# Altium schematic symbol library Keebs.SchLib: 35 symbols
Pins are listed as number, name and electrical type; pins without a type are passive.

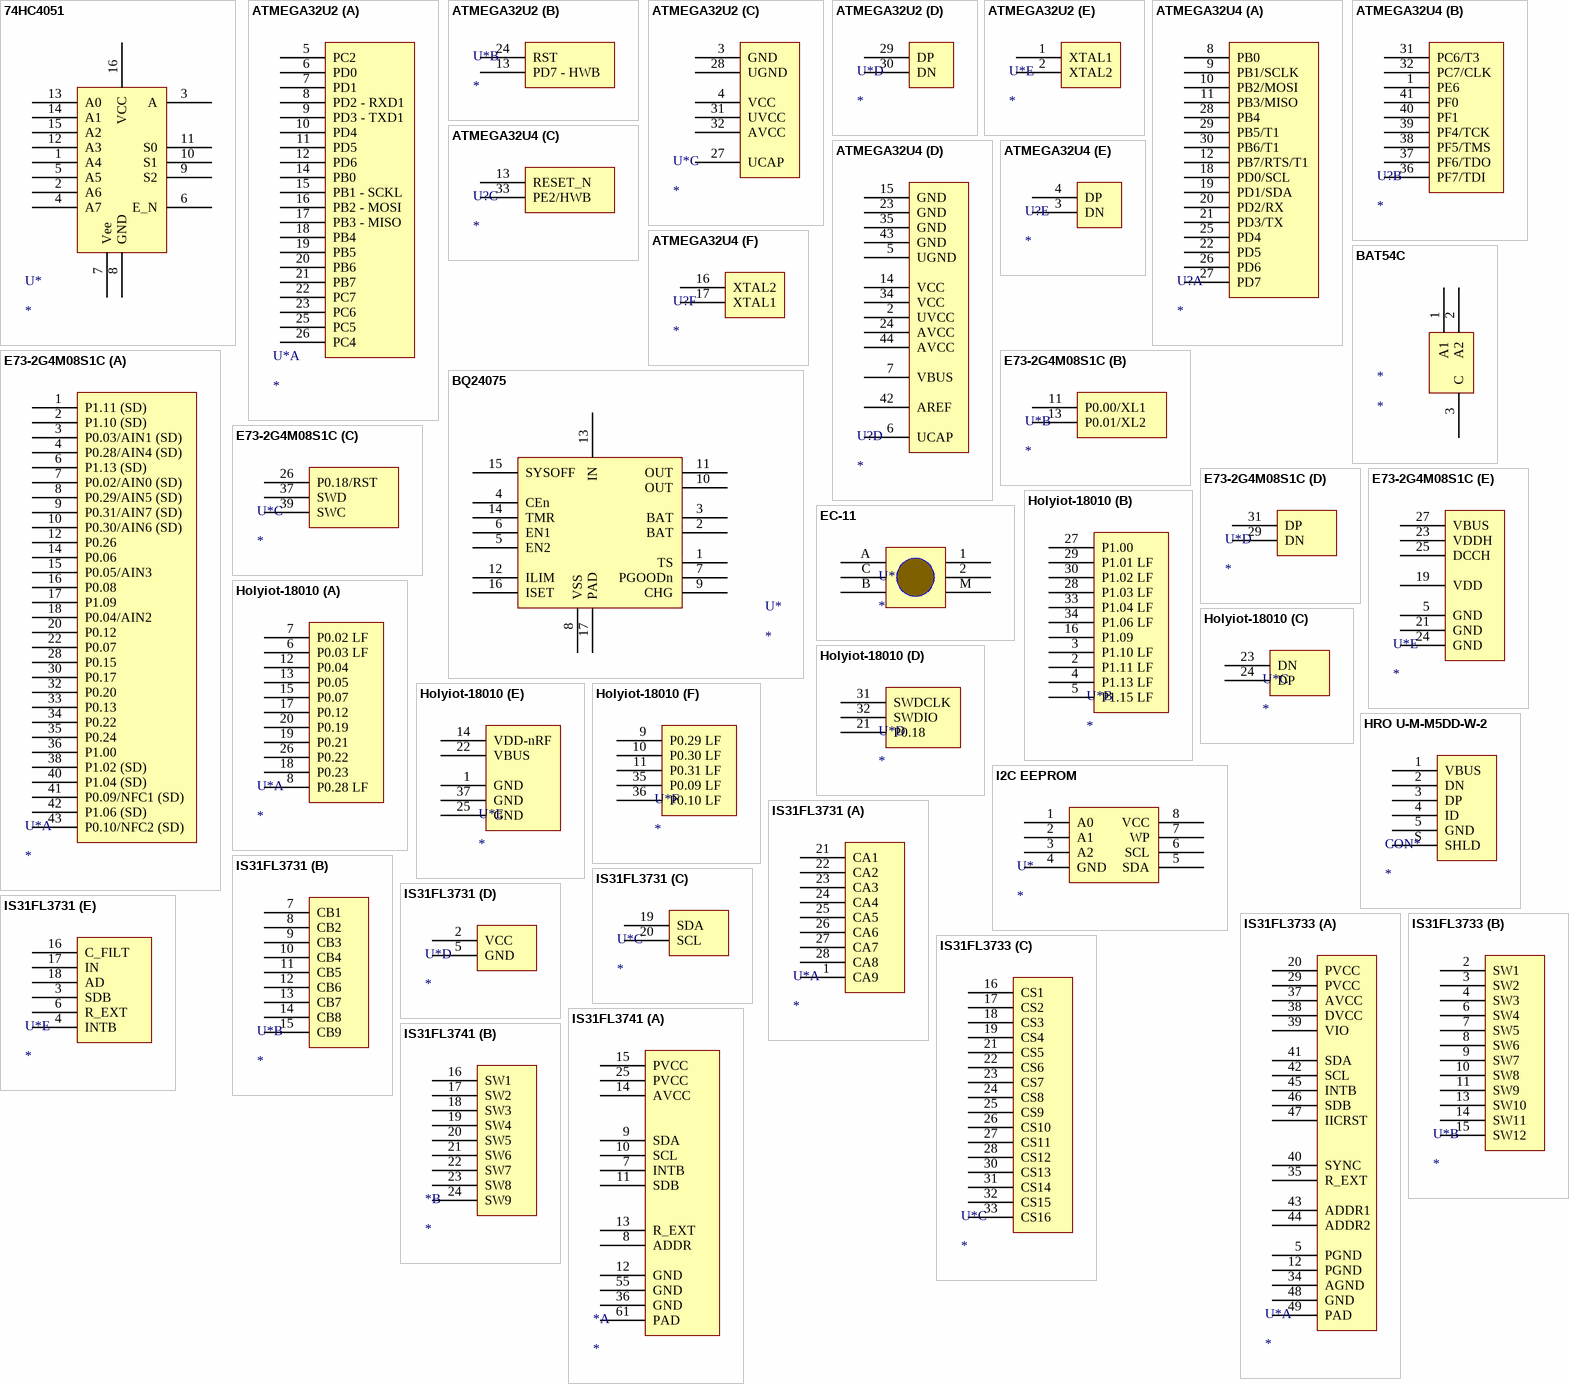
[diagram p0: symbols 74HC4051 to IS31FL3741]

## 74HC4051
designator U*
footprint Texas_Instruments_D_SOIC16
pins: 1 A4, 2 A6, 3 A, 4 A7, 5 A5, 6 E_N, 7 Vee, 8 GND, 9 S2, 10 S1, 11 S0, 12 A3, 13 A0, 14 A1, 15 A2, 16 VCC

## ATMEGA32U2
designator U*
MFG: Microchip Technology; MFGPN: ATMEGA32U2-AUR
footprint ATMEGA32U2-LQFP
part A pins: 5 PC2, 6 PD0, 7 PD1, 8 PD2 - RXD1, 9 PD3 - TXD1, 10 PD4, 11 PD5, 12 PD6, 14 PB0, 15 PB1 - SCKL, 16 PB2 - MOSI, 17 PB3 - MISO, 18 PB4, 19 PB5, 20 PB6, 21 PB7, 22 PC7, 23 PC6, 25 PC5, 26 PC4
part B pins: 13 PD7 - HWB, 24 RST
part C pins: 3 GND, 4 VCC, 27 UCAP, 28 UGND, 31 UVCC, 32 AVCC
part D pins: 29 DP, 30 DN
part E pins: 1 XTAL1, 2 XTAL2

## ATMEGA32U4
designator U?
footprint ATMEGA32U4-COMBO (QFP, 44-Leads, Body 9,95x9,95mm, Pitch 0,80mm, IPC Medium Density)
part A pins: 8 PB0, 9 PB1/SCLK, 10 PB2/MOSI, 11 PB3/MISO, 12 PB7/RTS/T1, 18 PD0/SCL, 19 PD1/SDA, 20 PD2/RX, 21 PD3/TX, 22 PD5, 25 PD4, 26 PD6, 27 PD7, 28 PB4, 29 PB5/T1, 30 PB6/T1
part B pins: 1 PE6, 31 PC6/T3, 32 PC7/CLK, 36 PF7/TDI, 37 PF6/TDO, 38 PF5/TMS, 39 PF4/TCK, 40 PF1, 41 PF0
part C pins: 13 RESET_N, 33 PE2/HWB
part D pins: 2 UVCC, 5 UGND, 6 UCAP, 7 VBUS, 14 VCC, 15 GND, 23 GND, 24 AVCC, 34 VCC, 35 GND, 42 AREF, 43 GND, 44 AVCC
part E pins: 3 DN, 4 DP
part F pins: 16 XTAL2, 17 XTAL1

## BAT54C
designator *
footprint SOT-23-3 (3.3v regulator, used in Windsond S2 proto 1)
pins: 1 A1, 2 A2, 3 C

## BQ24075
designator U*
footprint QFN16 (Generated for BQ24075RGTR)
pins: 1 TS, 2 BAT, 3 BAT, 4 CEn, 5 EN2, 6 EN1, 7 PGOODn, 8 VSS, 9 CHG, 10 OUT, 11 OUT, 12 ILIM, 13 IN, 14 TMR, 15 SYSOFF, 16 ISET, 17 PAD

## E73-2G4M08S1C
designator U*
footprint E73-2G4M08S1C
part A pins: 1 P1.11 (SD), 2 P1.10 (SD), 3 P0.03/AIN1 (SD), 4 P0.28/AIN4 (SD), 6 P1.13 (SD), 7 P0.02/AIN0 (SD), 8 P0.29/AIN5 (SD), 9 P0.31/AIN7 (SD), 10 P0.30/AIN6 (SD), 12 P0.26, 14 P0.06, 15 P0.05/AIN3, 16 P0.08, 17 P1.09, 18 P0.04/AIN2, 20 P0.12, 22 P0.07, 28 P0.15, 30 P0.17, 32 P0.20, 33 P0.13, 34 P0.22, 35 P0.24, 36 P1.00, 38 P1.02 (SD), 40 P1.04 (SD), 41 P0.09/NFC1 (SD), 42 P1.06 (SD), 43 P0.10/NFC2 (SD)
part B pins: 11 P0.00/XL1, 13 P0.01/XL2
part C pins: 26 P0.18/RST, 37 SWD, 39 SWC
part D pins: 29 DN, 31 DP
part E pins: 5 GND, 19 VDD, 21 GND, 23 VDDH, 24 GND, 25 DCCH, 27 VBUS

## EC-11
designator U*
footprint EC11-SMD
footprint EC11-THT
pins: 1, 2, A B, B, C, M

## Holyiot-18010
designator U*
footprint Holyiot-18010 - removed pads (Holyiot long range Nordic nRF52840 chipset BLE module Ceramic Antenna Bluetooth low Energy for Bluetooth mesh)
footprint Holyiot-18010 - outer pads (Holyiot long range Nordic nRF52840 chipset BLE module Ceramic Antenna Bluetooth low Energy for Bluetooth mesh)
part A pins: 6 P0.03 LF, 7 P0.02 LF, 8 P0.28 LF, 12 P0.04, 13 P0.05, 15 P0.07, 17 P0.12, 18 P0.23, 19 P0.21, 20 P0.19, 26 P0.22
part B pins: 2 P1.11 LF, 3 P1.10 LF, 4 P1.13 LF, 5 P1.15 LF, 16 P1.09, 27 P1.00, 28 P1.03 LF, 29 P1.01 LF, 30 P1.02 LF, 33 P1.04 LF, 34 P1.06 LF
part C pins: 23 DN, 24 DP
part D pins: 21 P0.18, 31 SWDCLK, 32 SWDIO
part E pins: 1 GND, 14 VDD-nRF, 22 VBUS, 25 GND, 37 GND
part F pins: 9 P0.29 LF, 10 P0.30 LF, 11 P0.31 LF, 35 P0.09 LF, 36 P0.10 LF

## HRO U-M-M5DD-W-2
designator CON*
footprint HRO U-M-M5DD-W-2
pins: 1 VBUS, 2 DN, 3 DP, 4 ID, 5 GND, S SHLD

## I2C EEPROM
designator U*
footprint SOIC-8 (Based on AT24C256C datasheet)
pins: 1 A0, 2 A1, 3 A2, 4 GND, 5 SDA, 6 SCL, 7 WP, 8 VCC

## IS31FL3731
designator U*
MFGPN: IS31FL3731-SALS2; MFG: ISSI, Integrated Silicon Solution Inc
footprint IS31FL3731 - SOP28
footprint IS31FL3731 - QFN
part A pins: 1 CA9, 21 CA1, 22 CA2, 23 CA3, 24 CA4, 25 CA5, 26 CA6, 27 CA7, 28 CA8
part B pins: 7 CB1, 8 CB2, 9 CB3, 10 CB4, 11 CB5, 12 CB6, 13 CB7, 14 CB8, 15 CB9
part C pins: 19 SDA, 20 SCL
part D pins: 2 VCC, 5 GND
part E pins: 3 SDB, 4 INTB, 6 R_EXT, 16 C_FILT, 17 IN, 18 AD

## IS31FL3733
designator U*
footprint IS31FL3733 - QFP
footprint IS31FL3733 - QFN
part A pins: 5 PGND, 12 PGND, 20 PVCC, 29 PVCC, 34 AGND, 35 R_EXT, 37 AVCC, 38 DVCC, 39 VIO, 40 SYNC, 41 SDA, 42 SCL, 43 ADDR1, 44 ADDR2, 45 INTB, 46 SDB, 47 IICRST, 48 GND, 49 PAD
part B pins: 2 SW1, 3 SW2, 4 SW3, 6 SW4, 7 SW5, 8 SW6, 9 SW7, 10 SW8, 11 SW9, 13 SW10, 14 SW11, 15 SW12
part C pins: 16 CS1, 17 CS2, 18 CS3, 19 CS4, 21 CS5, 22 CS6, 23 CS7, 24 CS8, 25 CS9, 26 CS10, 27 CS11, 28 CS12, 30 CS13, 31 CS14, 32 CS15, 33 CS16

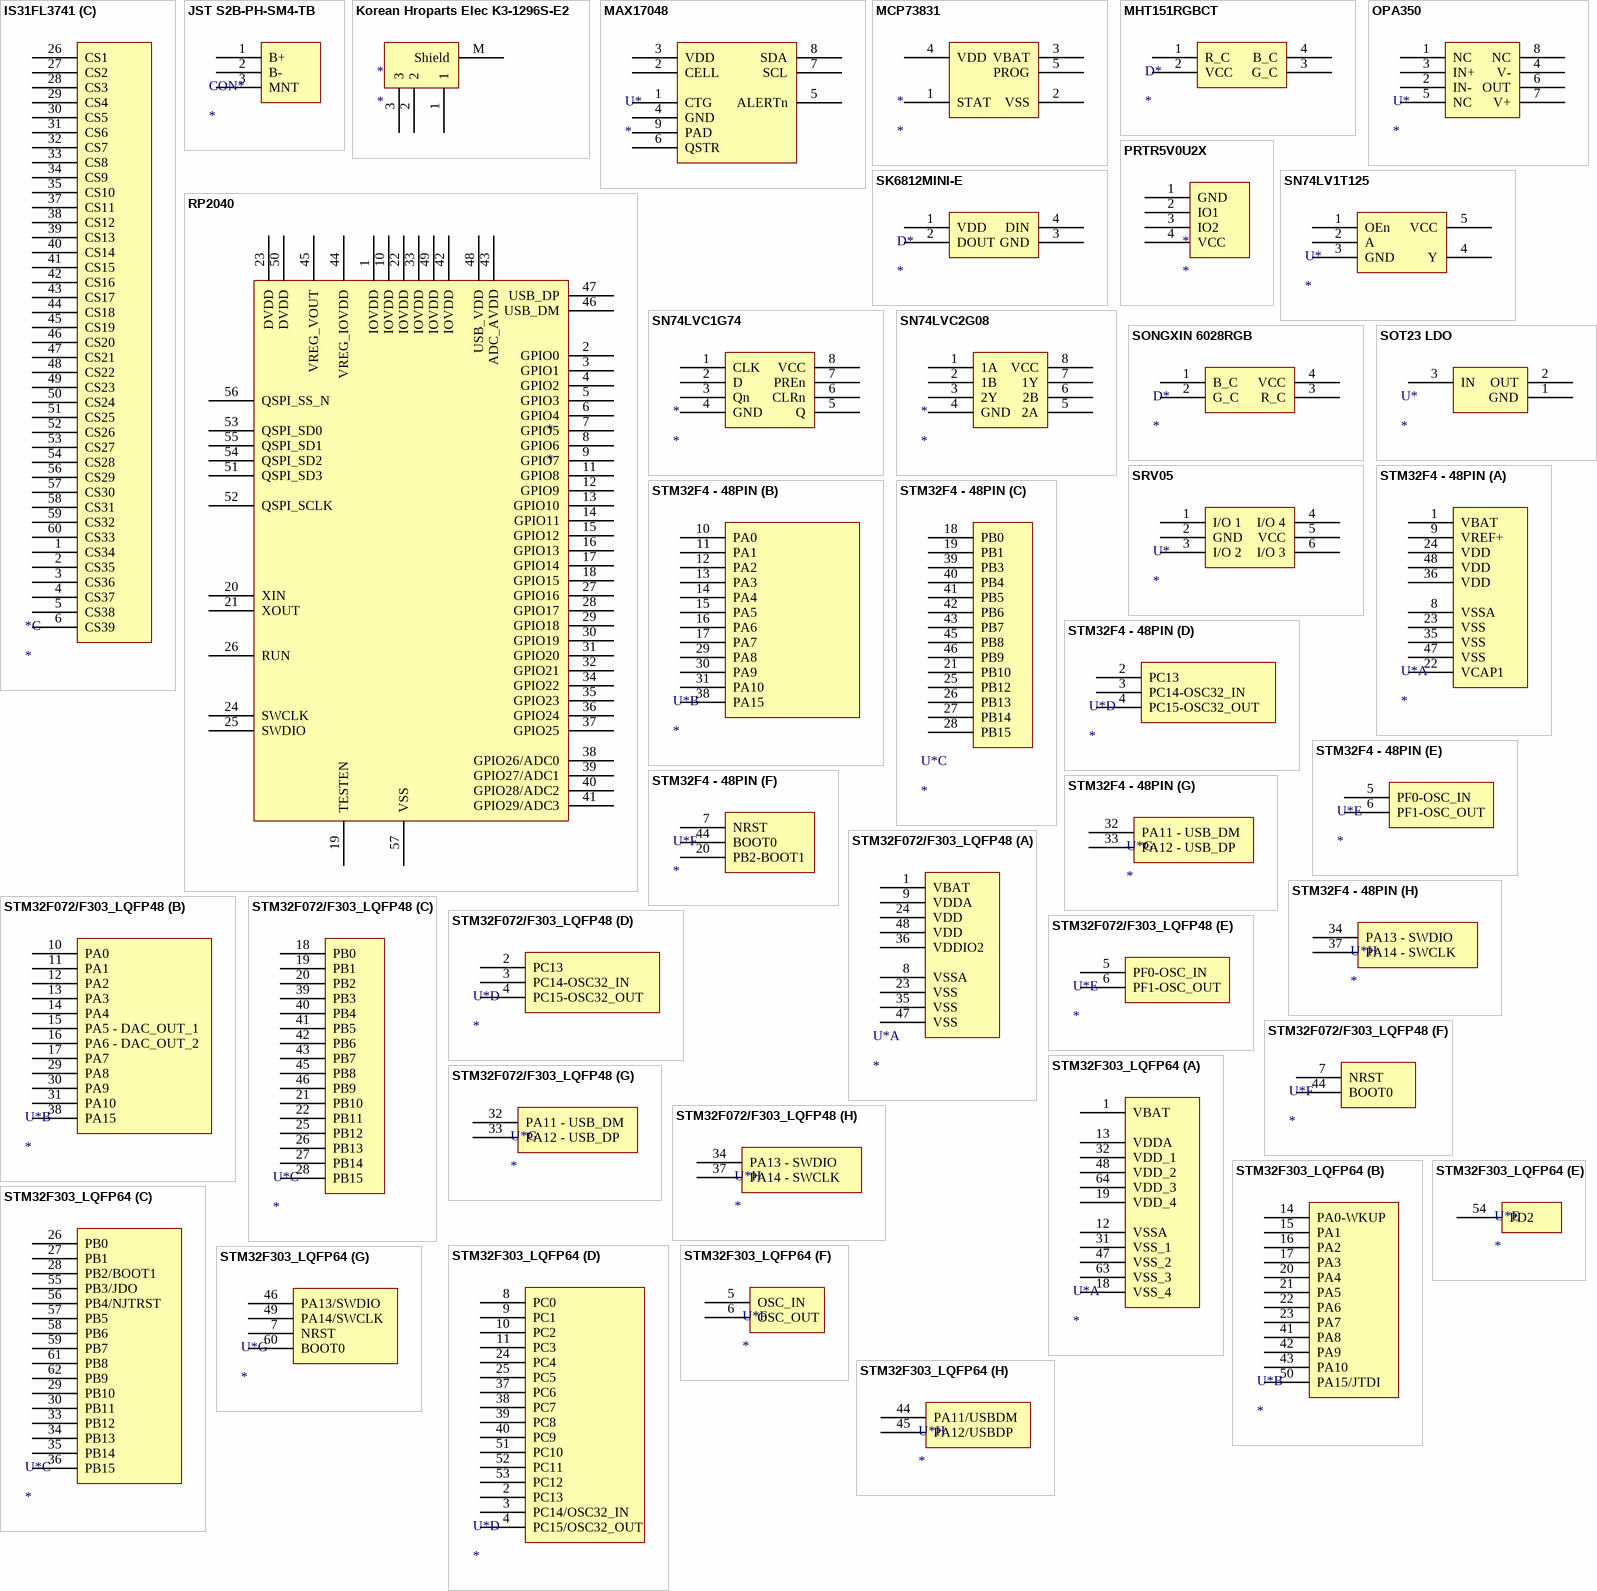
[diagram p1: symbols IS31FL3741 to STM32F303_LQFP64]

## IS31FL3741
designator *
footprint IS31FL3741
part A pins: 7 INTB, 8 ADDR, 9 SDA, 10 SCL, 11 SDB, 12 GND, 13 R_EXT, 14 AVCC, 15 PVCC, 25 PVCC, 36 GND, 55 GND, 61 PAD
part B pins: 16 SW1, 17 SW2, 18 SW3, 19 SW4, 20 SW5, 21 SW6, 22 SW7, 23 SW8, 24 SW9
part C pins: 1 CS34, 2 CS35, 3 CS36, 4 CS37, 5 CS38, 6 CS39, 26 CS1, 27 CS2, 28 CS3, 29 CS4, 30 CS5, 31 CS6, 32 CS7, 33 CS8, 34 CS9, 35 CS10, 37 CS11, 38 CS12, 39 CS13, 40 CS14, 41 CS15, 42 CS16, 43 CS17, 44 CS18, 45 CS19, 46 CS20, 47 CS21, 48 CS22, 49 CS23, 50 CS24, 51 CS25, 52 CS26, 53 CS27, 54 CS28, 56 CS29, 57 CS30, 58 CS31, 59 CS32, 60 CS33

## JST S2B-PH-SM4-TB
designator CON*
footprint JST S2B-PH-SM4-TB
pins: 1 B+, 2 B-, 3 MNT

## Korean Hroparts Elec K3-1296S-E2
designator *
footprint Korean Hroparts Elec K3-1296S-E2
pins: 1, 2, 3, M Shield

## MAX17048
designator U*
footprint 8TDFN (Generated for the MAX17048G+T10)
pins: 1 CTG, 2 CELL, 3 VDD, 4 GND, 5 ALERTn, 6 QSTR, 7 SCL, 8 SDA, 9 PAD

## MCP73831
designator *
footprint SOT-23-5
pins: 1 STAT, 2 VSS, 3 VBAT, 4 VDD, 5 PROG

## MHT151RGBCT
designator D*
footprint MHT151RGBCT (For MHT151RGBCT/E6CC1205RGBC3UDA)
pins: 1 R_C, 2 VCC, 3 G_C, 4 B_C

## OPA350
designator U*
footprint SOIC-8 (Based on AT24C256C datasheet)
pins: 1 NC, 2 IN-, 3 IN+, 4 V-, 5 NC, 6 OUT, 7 V+, 8 NC

## PRTR5V0U2X
designator *
footprint SOT190P237X120-4N (SOT143, 4-Leads, Body 3,00x2,37mm, Pitch 1,90mm, IPC Medium Density)
pins: 1 GND, 2 IO1, 3 IO2, 4 VCC

## RP2040
designator *
footprint RP2040 - QFN56
pins: 1 IOVDD, 2 GPIO0, 3 GPIO1, 4 GPIO2, 5 GPIO3, 6 GPIO4, 7 GPIO5, 8 GPIO6, 9 GPIO7, 10 IOVDD, 11 GPIO8, 12 GPIO9, 13 GPIO10, 14 GPIO11, 15 GPIO12, 16 GPIO13, 17 GPIO14, 18 GPIO15, 19 TESTEN, 20 XIN, 21 XOUT, 22 IOVDD, 23 DVDD, 24 SWCLK, 25 SWDIO, 26 RUN, 27 GPIO16, 28 GPIO17, 29 GPIO18, 30 GPIO19, 31 GPIO20, 32 GPIO21, 33 IOVDD, 34 GPIO22, 35 GPIO23, 36 GPIO24, 37 GPIO25, 38 GPIO26/ADC0, 39 GPIO27/ADC1, 40 GPIO28/ADC2, 41 GPIO29/ADC3, 42 IOVDD, 43 ADC_AVDD, 44 VREG_IOVDD, 45 VREG_VOUT, 46 USB_DM, 47 USB_DP, 48 USB_VDD, 49 IOVDD, 50 DVDD, 51 QSPI_SD3, 52 QSPI_SCLK, 53 QSPI_SD0, 54 QSPI_SD2, 55 QSPI_SD1, 56 QSPI_SS_N, 57 VSS

## SK6812MINI-E
designator D*
footprint SK6812MINI-E
pins: 1 VDD, 2 DOUT, 3 GND, 4 DIN

## SN74LV1T125
designator U*
SN74LV1T125 or SN74LV1T34. Connect OE to GND
footprint SOT-23-5
pins: 1 OEn, 2 A, 3 GND, 4 Y, 5 VCC

## SN74LVC1G74
designator *
footprint VSSOP8 (Dimensions from SN74LVC2G08DCUR)
pins: 1 CLK, 2 D, 3 Qn, 4 GND, 5 Q, 6 CLRn, 7 PREn, 8 VCC

## SN74LVC2G08
designator *
footprint VSSOP8 (Dimensions from SN74LVC2G08DCUR)
pins: 1 1A, 2 1B, 3 2Y, 4 GND, 5 2A, 6 2B, 7 1Y, 8 VCC

## SONGXIN 6028RGB
designator D*
footprint SONGXIN 6028RGB (Common Anode reverse mount LED)
pins: 1 B_C, 2 G_C, 3 R_C, 4 VCC

## SOT23 LDO
designator U*
MRF.Part: XC6206P332MR; LCSC MFG: Torex Semicon; MFG: Texas Instruments; MFGPN: TPS7A0533PDBZ; LCSC Part #: C5446
footprint SOT-23-3 (3.3v regulator, used in Windsond S2 proto 1)
pins: 1 GND, 2 OUT, 3 IN

## SRV05
designator U*
footprint SOT-23-6
pins: 1 I/O 1, 2 GND, 3 I/O 2, 4 I/O 4, 5 VCC, 6 I/O 3

## STM32F4 - 48PIN
designator U*
MFG: STMicroelectronics; MFGPN: STM32F072CBT6TR
footprint STM32 - LQFP48, 7x7mm (LQFP48, 7x7mm)
part A pins: 1 VBAT, 8 VSSA, 9 VREF+, 22 VCAP1, 23 VSS, 24 VDD, 35 VSS, 36 VDD, 47 VSS, 48 VDD
part B pins: 10 PA0, 11 PA1, 12 PA2, 13 PA3, 14 PA4, 15 PA5, 16 PA6, 17 PA7, 29 PA8, 30 PA9, 31 PA10, 38 PA15
part C pins: 18 PB0, 19 PB1, 21 PB10, 25 PB12, 26 PB13, 27 PB14, 28 PB15, 39 PB3, 40 PB4, 41 PB5, 42 PB6, 43 PB7, 45 PB8, 46 PB9
part D pins: 2 PC13, 3 PC14-OSC32_IN, 4 PC15-OSC32_OUT
part E pins: 5 PF0-OSC_IN, 6 PF1-OSC_OUT
part F pins: 7 NRST, 20 PB2-BOOT1, 44 BOOT0
part G pins: 32 PA11 - USB_DM, 33 PA12 - USB_DP
part H pins: 34 PA13 - SWDIO, 37 PA14 - SWCLK

## STM32F072/F303_LQFP48
designator U*
MFG: STMicroelectronics; MFGPN: STM32F072CBT6TR
footprint STM32 - LQFP48, 7x7mm (LQFP48, 7x7mm)
part A pins: 1 VBAT, 8 VSSA, 9 VDDA, 23 VSS, 24 VDD, 35 VSS, 36 VDDIO2, 47 VSS, 48 VDD
part B pins: 10 PA0, 11 PA1, 12 PA2, 13 PA3, 14 PA4, 15 PA5 - DAC_OUT_1, 16 PA6 - DAC_OUT_2, 17 PA7, 29 PA8, 30 PA9, 31 PA10, 38 PA15
part C pins: 18 PB0, 19 PB1, 20 PB2, 21 PB10, 22 PB11, 25 PB12, 26 PB13, 27 PB14, 28 PB15, 39 PB3, 40 PB4, 41 PB5, 42 PB6, 43 PB7, 45 PB8, 46 PB9
part D pins: 2 PC13, 3 PC14-OSC32_IN, 4 PC15-OSC32_OUT
part E pins: 5 PF0-OSC_IN, 6 PF1-OSC_OUT
part F pins: 7 NRST, 44 BOOT0
part G pins: 32 PA11 - USB_DM, 33 PA12 - USB_DP
part H pins: 34 PA13 - SWDIO, 37 PA14 - SWCLK

## STM32F303_LQFP64
designator U*
footprint STM32 - LQFP64, 10x10mm (TSQFP, 64-Leads, Body 10.00x10.00mm, Pitch 0.50mm, IPC Medium Density)
part A pins: 1 VBAT, 12 VSSA, 13 VDDA, 18 VSS_4, 19 VDD_4, 31 VSS_1, 32 VDD_1, 47 VSS_2, 48 VDD_2, 63 VSS_3, 64 VDD_3
part B pins: 14 PA0-WKUP, 15 PA1, 16 PA2, 17 PA3, 20 PA4, 21 PA5, 22 PA6, 23 PA7, 41 PA8, 42 PA9, 43 PA10, 50 PA15/JTDI
part C pins: 26 PB0, 27 PB1, 28 PB2/BOOT1, 29 PB10, 30 PB11, 33 PB12, 34 PB13, 35 PB14, 36 PB15, 55 PB3/JDO, 56 PB4/NJTRST, 57 PB5, 58 PB6, 59 PB7, 61 PB8, 62 PB9
part D pins: 2 PC13, 3 PC14/OSC32_IN, 4 PC15/OSC32_OUT, 8 PC0, 9 PC1, 10 PC2, 11 PC3, 24 PC4, 25 PC5, 37 PC6, 38 PC7, 39 PC8, 40 PC9, 51 PC10, 52 PC11, 53 PC12
part E pins: 54 PD2
part F pins: 5 OSC_IN, 6 OSC_OUT
part G pins: 7 NRST, 46 PA13/SWDIO, 49 PA14/SWCLK, 60 BOOT0
part H pins: 44 PA11/USBDM, 45 PA12/USBDP

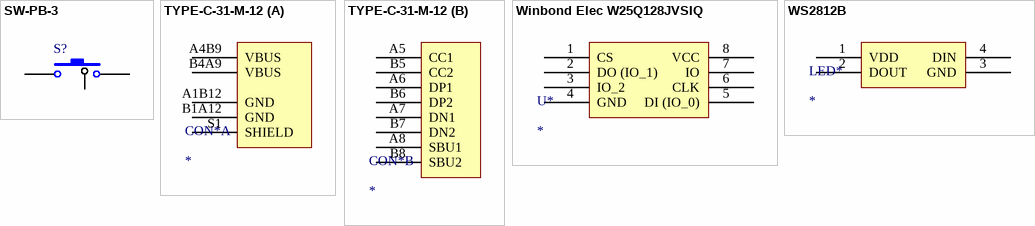
[diagram p2: symbols SW-PB-3 to WS2812B]

## SW-PB-3
designator S?
Switch; Published: 24-Mar-1999; LatestRevisionDate: 17-Jul-2002; LatestRevisionNote: Re-released for DXP Platform.; PackageReference: SPST-2; Publisher: Altium Limited; PackageDescription: Switch; 2 Leads
footprint Topre
pins: 1, 2, 3

## TYPE-C-31-M-12
designator CON*
MFG: Korean Hroparts Elec; MFGPN: TYPE-C-31-M-12
footprint TYPE-C-31-M-12
part A pins: A1B12 GND, A4B9 VBUS, B1A12 GND, B4A9 VBUS, S1 SHIELD
part B pins: A5 CC1, A6 DP1, A7 DN1, A8 SBU1, B5 CC2, B6 DP2, B7 DN2, B8 SBU2

## Winbond Elec W25Q128JVSIQ
designator U*
footprint SOIC-8 (Based on AT24C256C datasheet)
pins: 1 CS, 2 DO (IO_1), 3 IO_2, 4 GND, 5 DI (IO_0), 6 CLK, 7 IO, 8 VCC

## WS2812B
designator LED*
MFGPN: WS2812B
footprint WS2812B
pins: 1 VDD, 2 DOUT, 3 GND, 4 DIN